# EAGLE library part A-2004-2-4-LPS-N-R (library ruark2)
Jack Modular Connector 8p8c (RJ45, Ethernet) 90° Angle (Right) Shielded Asian alternate: RCH RC00994
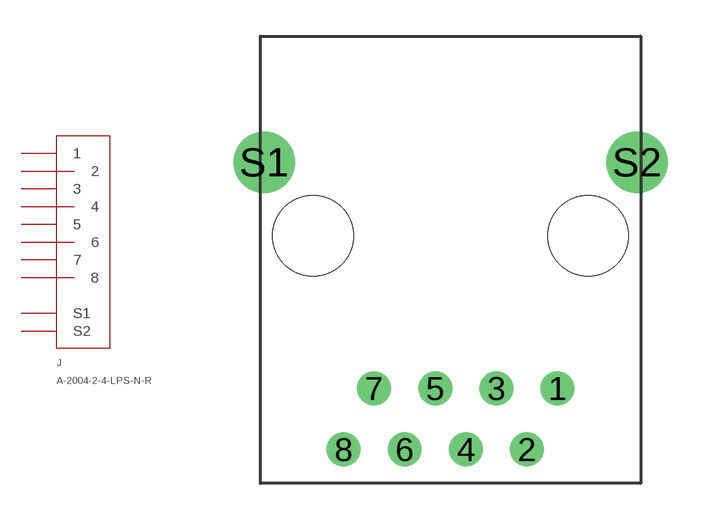
[diagram p198: symbol with the pads of A-2004-2-4-LPS-N-R; footprint A-2004-2-4-LPS-N-R]

Designator prefix J

## A-2004-2-4-LPS-N-R (PARTNO: AE10387-ND)  [A-2004-2-4-LPS-N-R]
1  1
2  2
3  3
4  4
5  5
6  6
7  7
8  8
S1  S1
S2  S2

## Footprint A-2004-2-4-LPS-N-R (pad centres in mm)
drill 0.9: 1 4.445,-6.35; 2 3.175,-8.89; 3 1.905,-6.35; 4 0.635,-8.89; 5 -0.635,-6.35; 6 -1.905,-8.89; 7 -3.175,-6.35; 8 -4.445,-8.89
drill 1.7: S1 -7.75,3.05; S2 7.75,3.05
hole 3.35 at -5.715,0
hole 3.35 at 5.715,0